# EAGLE library part SN74LVC573APWR_LCSC (library lcsc_parts)
Description: D Latch 1.65V~3.6V 8 2ns TSSOP-20 Latches RoHS Manufacturer: TI MPN: SN74LVC573APWR LCSC Part: C113280 Category: Latches Datasheet: https://datasheet.lcsc.com/datasheet/pdf/45c01a950abfb5c1dd3a3d3a69c2de36.pdf?productCode=C113280
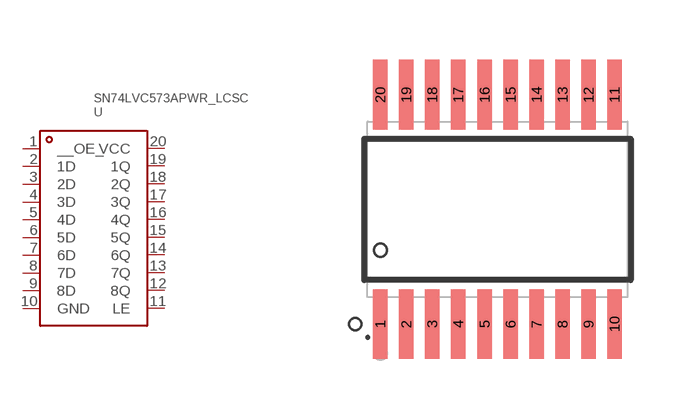
[diagram p3: symbol with the pads of TSSOP-20_L6.5-W4.4-P0.65-LS6.4-BL; footprint TSSOP-20_L6.5-W4.4-P0.65-LS6.4-BL]

Designator prefix U

## SN74LVC573APWR_LCSC (CATEGORY: Latches; CURRENT_OUTPUT_HIGH_IOH: 24mA; CURRENT_OUTPUT_LOW_IOL: 24mA; DATASHEET: https://datasheet.lcsc.com/datasheet/pdf/45c01a950abfb5c1dd3a3d3a69c2de36.pdf?productCode=C113280; DESCRIPTION: D Latch 1.65V~3.6V 8 2ns TSSOP-20 Latches RoHS; HOLD_TIME: 1.5ns; LCSC_PART: C113280; LCSC_STOCK: 2211; LOGIC_TYPE: D Latch; MANUFACTURER: TI; MPN: SN74LVC573APWR; NUMBER_OF_GATES: 8; OPERATING_TEMPERATURE: -40℃~+85℃; OUTPUT_TYPE: Tri-State; PARTNO: SN74LVC573APWR; PRICING_1000: $0.5408/unit @ 1000; PRICING_50: $0.6809/unit @ 50; PROPAGATION_DELAY: 2ns; QUIESCENT_CURRENT: 10uA; SERIES: 74LVC; SETUP_TIME: 2ns; VOLTAGE_SUPPLY: 1.65V~3.6V)  [TSSOP-20_L6.5-W4.4-P0.65-LS6.4-BL]
1  __OE_
2  1D
3  2D
4  3D
5  4D
6  5D
7  6D
8  7D
9  8D
10  GND
11  LE
12  8Q
13  7Q
14  6Q
15  5Q
16  4Q
17  3Q
18  2Q
19  1Q
20  VCC

## Footprint TSSOP-20_L6.5-W4.4-P0.65-LS6.4-BL (pad centres in mm)
smd 0.364 x 1.742: 1 -2.93,-2.87; 2 -2.28,-2.87; 3 -1.63,-2.87; 4 -0.98,-2.87; 5 -0.32,-2.87; 6 0.33,-2.87; 7 0.98,-2.87; 8 1.63,-2.87; 9 2.28,-2.87; 10 2.93,-2.87; 11 2.93,2.87; 12 2.28,2.87; 13 1.63,2.87; 14 0.98,2.87; 15 0.33,2.87; 16 -0.32,2.87; 17 -0.98,2.87; 18 -1.63,2.87; 19 -2.28,2.87; 20 -2.93,2.87